# Altium footprint library 750311771.PcbLib: 1 footprints
Each footprint in its own frame and in the unit in brackets; x right, y up, seen from the top. Pads: shape width x height; smd on the part's side, far side on the other; paste and mask are expansions set on the pad; w line width, h text height; cw(c..) or ccw(c..) is an arc to the next point about the centre after c.
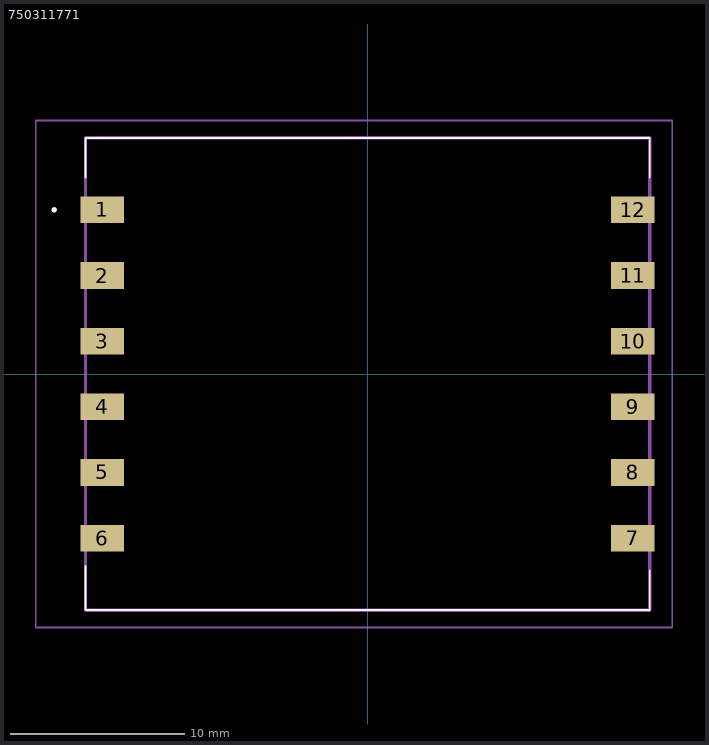
[diagram p0: the footprint, top view; thin cyan lines are the x and y axes]

## 750311771 [mm]
pads (12):
  rect 2.5x1.52 smd: 1(-15.19,9.4) 2(-15.19,5.64) 3(-15.19,1.88) 4(-15.19,-1.88) 5(-15.19,-5.64) 6(-15.19,-9.4) 7(15.19,-9.4) 8(15.19,-5.64) 9(15.19,-1.88) 10(15.19,1.88) 11(15.19,5.64) 12(15.19,9.4)
Top Overlay:
  lines w0.1: -16.155,-13.5 16.155,-13.5 16.155,-13.515 ; -16.155,-13.5 -16.155,-13.515 16.155,-13.515 ; -16.155,-13.5 -16.155,-11 ; -16.155,-13.5 -16.155,-13.5 ; -16.155,-13.5 -16.155,-11 ; -16.155,-11 -16.155,-11 ; -16.155,11.25 -16.155,13.5 ; -16.155,11.25 -16.155,11.25 ; -16.155,11.25 -16.155,13.5 ; -16.155,13.5 -16.155,13.5 ; -16.155,13.515 16.155,13.515 ; -16.155,13.515 16.155,13.515 ; -16.155,13.515 -16.155,13.515 ; 16.155,-13.515 16.155,-11.25 ; 16.155,-13.515 16.155,-13.515 ; 16.155,-13.515 16.155,-11.25 ; 16.155,-11.25 16.155,-11.25 ; 16.155,11.25 16.155,13.515 ; 16.155,11.25 16.155,11.25 ; 16.155,11.25 16.155,13.515 ; 16.155,13.515 16.155,13.515 ; 16.155,13.515 16.155,13.515
  lines w0.2: -18,9.4 -18,9.4 ; -18,9.4 ccw(c-17.95,9.4) -17.9,9.4 ; -18,9.4 cw(c-17.95,9.4) -17.9,9.4 ; -18,9.4 -18,9.4 ; -18,9.4 ccw(c-17.95,9.4) -17.9,9.4 ; -17.9,9.4 -17.9,9.4
Mechanical 15:
  lines w0.2: -16.155,-13.515 16.155,-13.515 16.155,13.515 -16.155,13.515 -16.155,-13.515
Mechanical 20:
  lines w0.1: -19,-14.515 17.44,-14.515 17.44,14.515 -19,14.515 -19,-14.515
3D body "750311771.stp": height 5.8, standoff -4.65, extent -10,-3.376 10,3.376